# EAGLE library part MC1372 (library micro-motorola-rp)
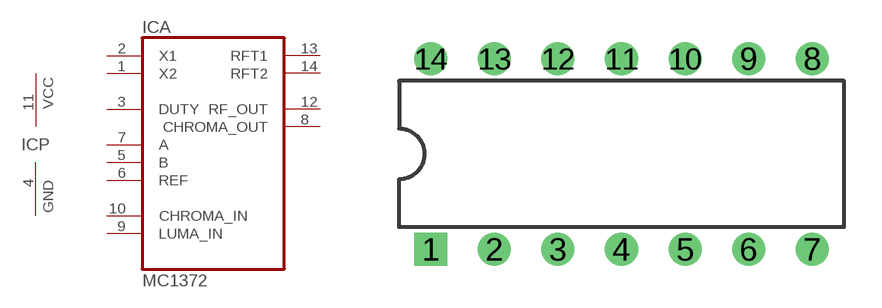
[diagram p84: symbol with the pads of DIL14; footprint DIL14]

Designator prefix IC; gates A=MC1372 P=PWR-GND

## MC1372  [DIL14]
1  A:X2  in
2  A:X1  in
3  A:DUTY  in
4  P:GND  pwr
5  A:B  in
6  A:REF  in
7  A:A  in
8  A:CHROMA_OUT  out
9  A:LUMA_IN  in
10  A:CHROMA_IN  in
11  P:VCC  pwr
12  A:RF_OUT  out
13  A:RFT1  in
14  A:RFT2  in

## Footprint DIL14 (pad centres in mm)
Dual In Line Package
drill 0.813 square: 1 -7.62,-3.81
drill 0.813: 2 -5.08,-3.81; 3 -2.54,-3.81; 4 0,-3.81; 5 2.54,-3.81; 6 5.08,-3.81; 7 7.62,-3.81; 8 7.62,3.81; 9 5.08,3.81; 10 2.54,3.81; 11 0,3.81; 12 -2.54,3.81; 13 -5.08,3.81; 14 -7.62,3.81